# Altium schematic symbol library W25Q128JVEIM.SchLib: 1 symbol
Pins are listed as number, name and electrical type; pins without a type are passive.

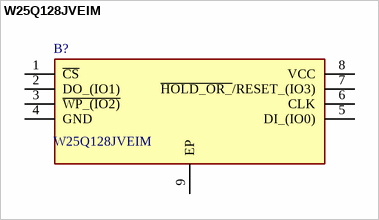
[diagram p0: symbol W25Q128JVEIM]

## W25Q128JVEIM
designator B?
128M-bit Serial Flash Memory with uniform 4KB sectors and Dual/Quad SPI; Manufacturer_Name: Winbond; Geometry.Height: 0.8mm; Manufacturer_Part_Number: W25Q128JVEIM; Mouser Part Number: 454-W25Q128JVEIM; Mouser Price/Stock: https://www.mouser.co.uk/ProductDetail/Winbond/W25Q128JVEIM?qs=qSfuJ%252Bfl%2Fd6hdnQ7I94fFQ%3D%3D; Arrow Part Number: W25Q128JVEIM; Arrow Price/Stock: https://www.arrow.com/en/products/w25q128jveim/winbond-electronics.html?utm_currency=USD&region=asia; Datasheet Link: https://www.winbond.com/hq/search-resource-file.jsp?partNo=W25Q128JVEIM&type=datasheet
footprint SON127P800X600X80-9N-D
pins: 1 ~{CS}, 2 DO_(IO1), 3 ~{WP_(IO2)}, 4 GND, 5 DI_(IO0), 6 CLK, 7 ~{HOLD_OR_}/RESET_(IO3), 8 VCC, 9 EP